# EAGLE library part LOKI_PLANK (library loki)
Expansion plank templates for Loki.
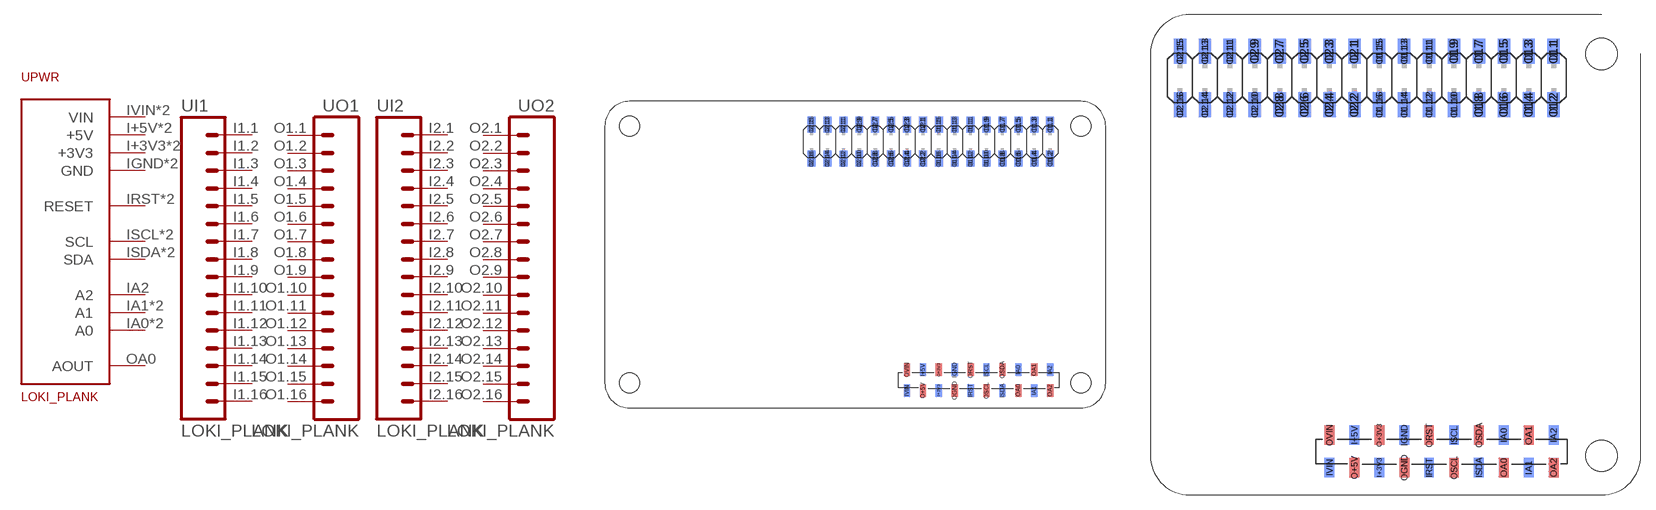
[diagram p0: symbol with the pads of PLANK_LONG; footprints PLANK_LONG, PLANK_SHORT]

Designator prefix -; gates I1=INBANK I2=INBANK PWR=POWERHEADER O1=OUTBANK O2=OUTBANK

## LOKI_PLANKLONG  [PLANK_LONG]
I1.1  I1:1  pas
I1.2  I1:2  pas
I1.3  I1:3  pas
I1.4  I1:4  pas
I1.5  I1:5  pas
I1.6  I1:6  pas
I1.7  I1:7  pas
I1.8  I1:8  pas
I1.9  I1:9  pas
I1.10  I1:10  pas
I1.11  I1:11  pas
I1.12  I1:12  pas
I1.13  I1:13  pas
I1.14  I1:14  pas
I1.15  I1:15  pas
I1.16  I1:16  pas
I2.1  I2:1  pas
I2.2  I2:2  pas
I2.3  I2:3  pas
I2.4  I2:4  pas
I2.5  I2:5  pas
I2.6  I2:6  pas
I2.7  I2:7  pas
I2.8  I2:8  pas
I2.9  I2:9  pas
I2.10  I2:10  pas
I2.11  I2:11  pas
I2.12  I2:12  pas
I2.13  I2:13  pas
I2.14  I2:14  pas
I2.15  I2:15  pas
I2.16  I2:16  pas
I+3V3  PWR:+3V3  pwr
I+5V  PWR:+5V  pwr
IA0  PWR:A0  out
IA1  PWR:A1  out
IA2  PWR:A2  out
IGND  PWR:GND  pwr
IRST  PWR:RESET  in
ISCL  PWR:SCL
ISDA  PWR:SDA
IVIN  PWR:VIN  pwr
O1.1  O1:1  pas
O1.2  O1:2  pas
O1.3  O1:3  pas
O1.4  O1:4  pas
O1.5  O1:5  pas
O1.6  O1:6  pas
O1.7  O1:7  pas
O1.8  O1:8  pas
O1.9  O1:9  pas
O1.10  O1:10  pas
O1.11  O1:11  pas
O1.12  O1:12  pas
O1.13  O1:13  pas
O1.14  O1:14  pas
O1.15  O1:15  pas
O1.16  O1:16  pas
O2.1  O2:1  pas
O2.2  O2:2  pas
O2.3  O2:3  pas
O2.4  O2:4  pas
O2.5  O2:5  pas
O2.6  O2:6  pas
O2.7  O2:7  pas
O2.8  O2:8  pas
O2.9  O2:9  pas
O2.10  O2:10  pas
O2.11  O2:11  pas
O2.12  O2:12  pas
O2.13  O2:13  pas
O2.14  O2:14  pas
O2.15  O2:15  pas
O2.16  O2:16  pas
O+3V3  PWR:+3V3  pwr
O+5V  PWR:+5V  pwr
OA0  PWR:AOUT  in
OA1  PWR:A0  out
OA2  PWR:A1  out
OGND  PWR:GND  pwr
ORST  PWR:RESET  in
OSCL  PWR:SCL
OSDA  PWR:SDA
OVIN  PWR:VIN  pwr

## LOKI_PLANKSHORT  [PLANK_SHORT]
Pads as for PLANK_LONG

## Footprint PLANK_LONG (pad centres in mm)
Full size expansion plank template.
smd 1.27 x 2.54 bottom: I1.1 71.12,45.275; I1.2 71.12,39.815; I1.3 68.58,45.275; I1.4 68.58,39.815; I1.5 66.04,45.275; I1.6 66.04,39.815; I1.7 63.5,45.275; I1.8 63.5,39.815; I1.9 60.96,45.275; I1.10 60.96,39.815; I1.11 58.42,45.275; I1.12 58.42,39.815; I1.13 55.88,45.275; I1.14 55.88,39.815; I1.15 53.34,45.275; I1.16 53.34,39.815; I2.1 50.8,45.275; I2.2 50.8,39.815; I2.3 48.26,45.275; I2.4 48.26,39.815; I2.5 45.72,45.275; I2.6 45.72,39.815; I2.7 43.18,45.275; I2.8 43.18,39.815; I2.9 40.64,45.275; I2.10 40.64,39.815; I2.11 38.1,45.275; I2.12 38.1,39.815; I2.13 35.56,45.275; I2.14 35.56,39.815; I2.15 33.02,45.275; I2.16 33.02,39.815
smd 1 x 2 bottom: I+3V3 53.34,2.795; I+5V 50.8,6.095; IA0 66.04,6.095; IA1 68.58,2.795; IA2 71.12,6.095; IGND 55.88,6.095; IRST 58.42,2.795; ISCL 60.96,6.095; ISDA 63.5,2.795; IVIN 48.26,2.795
smd 1.27 x 2.54: O1.1 71.12,45.275; O1.2 71.12,39.815; O1.3 68.58,45.275; O1.4 68.58,39.815; O1.5 66.04,45.275; O1.6 66.04,39.815; O1.7 63.5,45.275; O1.8 63.5,39.815; O1.9 60.96,45.275; O1.10 60.96,39.815; O1.11 58.42,45.275; O1.12 58.42,39.815; O1.13 55.88,45.275; O1.14 55.88,39.815; O1.15 53.34,45.275; O1.16 53.34,39.815; O2.1 50.8,45.275; O2.2 50.8,39.815; O2.3 48.26,45.275; O2.4 48.26,39.815; O2.5 45.72,45.275; O2.6 45.72,39.815; O2.7 43.18,45.275; O2.8 43.18,39.815; O2.9 40.64,45.275; O2.10 40.64,39.815; O2.11 38.1,45.275; O2.12 38.1,39.815; O2.13 35.56,45.275; O2.14 35.56,39.815; O2.15 33.02,45.275; O2.16 33.02,39.815
smd 1 x 2: O+3V3 53.34,6.095; O+5V 50.8,2.795; OA0 66.04,2.795; OA1 68.58,6.095; OA2 71.12,2.795; OGND 55.88,2.795; ORST 58.42,6.095; OSCL 60.96,2.795; OSDA 63.5,6.095; OVIN 48.26,6.095
hole 3.2 at 4,4
hole 3.2 at 76,4
hole 3.2 at 76,45
hole 3.2 at 4,45

## Footprint PLANK_SHORT (pad centres in mm)
Short expansion template (49mm x 50mm).
smd 1.27 x 2.54 bottom: I1.1 41.12,45.275; I1.2 41.12,39.815; I1.3 38.58,45.275; I1.4 38.58,39.815; I1.5 36.04,45.275; I1.6 36.04,39.815; I1.7 33.5,45.275; I1.8 33.5,39.815; I1.9 30.96,45.275; I1.10 30.96,39.815; I1.11 28.42,45.275; I1.12 28.42,39.815; I1.13 25.88,45.275; I1.14 25.88,39.815; I1.15 23.34,45.275; I1.16 23.34,39.815; I2.1 20.8,45.275; I2.2 20.8,39.815; I2.3 18.26,45.275; I2.4 18.26,39.815; I2.5 15.72,45.275; I2.6 15.72,39.815; I2.7 13.18,45.275; I2.8 13.18,39.815; I2.9 10.64,45.275; I2.10 10.64,39.815; I2.11 8.1,45.275; I2.12 8.1,39.815; I2.13 5.56,45.275; I2.14 5.56,39.815; I2.15 3.02,45.275; I2.16 3.02,39.815
smd 1 x 2 bottom: I+3V3 23.34,2.795; I+5V 20.8,6.095; IA0 36.04,6.095; IA1 38.58,2.795; IA2 41.12,6.095; IGND 25.88,6.095; IRST 28.42,2.795; ISCL 30.96,6.095; ISDA 33.5,2.795; IVIN 18.26,2.795
smd 1.27 x 2.54: O1.1 41.12,45.275; O1.2 41.12,39.815; O1.3 38.58,45.275; O1.4 38.58,39.815; O1.5 36.04,45.275; O1.6 36.04,39.815; O1.7 33.5,45.275; O1.8 33.5,39.815; O1.9 30.96,45.275; O1.10 30.96,39.815; O1.11 28.42,45.275; O1.12 28.42,39.815; O1.13 25.88,45.275; O1.14 25.88,39.815; O1.15 23.34,45.275; O1.16 23.34,39.815; O2.1 20.8,45.275; O2.2 20.8,39.815; O2.3 18.26,45.275; O2.4 18.26,39.815; O2.5 15.72,45.275; O2.6 15.72,39.815; O2.7 13.18,45.275; O2.8 13.18,39.815; O2.9 10.64,45.275; O2.10 10.64,39.815; O2.11 8.1,45.275; O2.12 8.1,39.815; O2.13 5.56,45.275; O2.14 5.56,39.815; O2.15 3.02,45.275; O2.16 3.02,39.815
smd 1 x 2: O+3V3 23.34,6.095; O+5V 20.8,2.795; OA0 36.04,2.795; OA1 38.58,6.095; OA2 41.12,2.795; OGND 25.88,2.795; ORST 28.42,6.095; OSCL 30.96,2.795; OSDA 33.5,6.095; OVIN 18.26,6.095
hole 3.2 at 46,4
hole 3.2 at 46,45